# Altium schematic symbol library Resistors$.SchLib: 673 symbols (part 3 of 5)
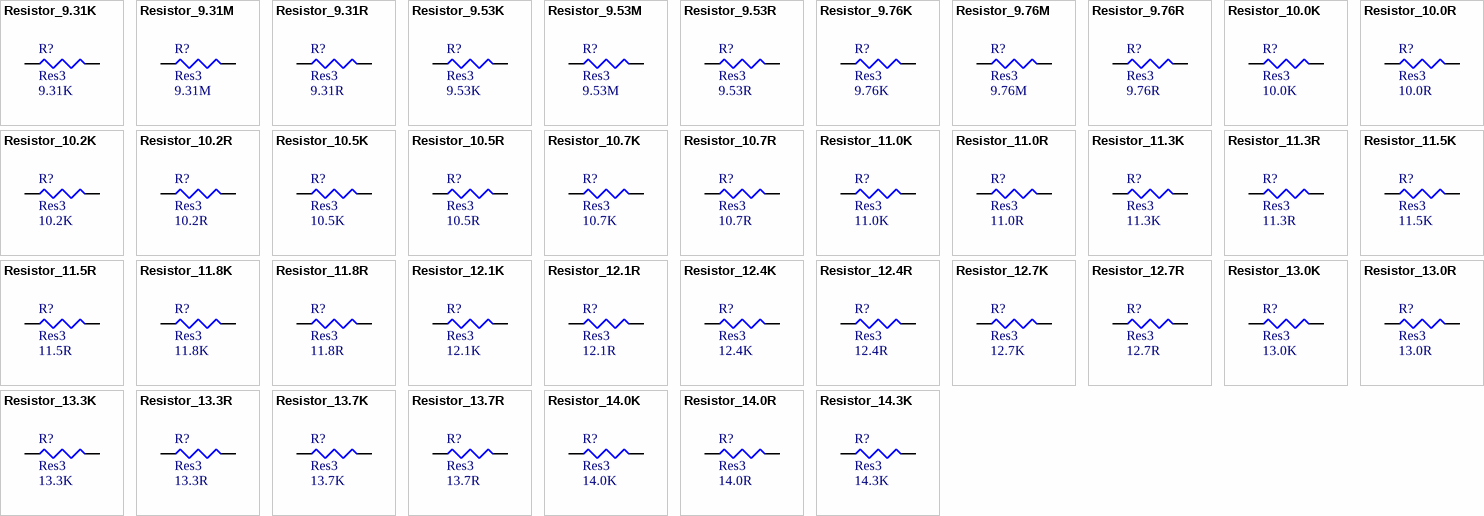
[diagram p18: symbols Resistor_9.31K to Resistor_14.3K]

## Resistor_11.3R
designator R?, comment Res3  value 11.3R
RES SMD 11.3R OHM 1% 1/8W 0805; MPN: CRCW080511R3FKEA; Name: Resistor_11.3R; PN: 541-11.3CCT-ND; URL: http://www.digikey.ca/product-detail/en/CRCW080511R3FKEA/541-11.3CCT-ND
footprint RESC2112X05M (Chip Resistor, 2-Leads, Body 2.05x1.25mm, IPC Low Density)
pins: 1, 2

## Resistor_11.5K
designator R?, comment Res3  value 11.5K
RES SMD 11.5K OHM 1% 1/8W 0805; MPN: CRCW080511K5FKEA; Name: Resistor_11.5K; PN: 541-11.5KCCT-ND; URL: http://www.digikey.ca/product-detail/en/CRCW080511K5FKEA/541-11.5KCCT-ND
footprint RESC2112X05M (Chip Resistor, 2-Leads, Body 2.05x1.25mm, IPC Low Density)
pins: 1, 2

## Resistor_11.5R
designator R?, comment Res3  value 11.5R
RES SMD 11.5R OHM 1% 1/8W 0805; MPN: CRCW080511R5FKEA; Name: Resistor_11.5R; PN: 541-11.5CCT-ND; URL: http://www.digikey.ca/product-detail/en/CRCW080511R5FKEA/541-11.5CCT-ND
footprint RESC2112X05M (Chip Resistor, 2-Leads, Body 2.05x1.25mm, IPC Low Density)
pins: 1, 2

## Resistor_11.8K
designator R?, comment Res3  value 11.8K
RES SMD 11.8K OHM 1% 1/8W 0805; MPN: CRCW080511K8FKEA; Name: Resistor_11.8K; PN: 541-11.8KCCT-ND; URL: http://www.digikey.ca/product-detail/en/CRCW080511K8FKEA/541-11.8KCCT-ND
footprint RESC2112X05M (Chip Resistor, 2-Leads, Body 2.05x1.25mm, IPC Low Density)
pins: 1, 2

## Resistor_11.8R
designator R?, comment Res3  value 11.8R
RES SMD 11.8R OHM 1% 1/8W 0805; MPN: CRCW080511R8FKEA; Name: Resistor_11.8R; PN: 541-11.8CCT-ND; URL: http://www.digikey.ca/product-detail/en/CRCW080511R8FKEA/541-11.8CCT-ND
footprint RESC2112X05M (Chip Resistor, 2-Leads, Body 2.05x1.25mm, IPC Low Density)
pins: 1, 2

## Resistor_12.1K
designator R?, comment Res3  value 12.1K
RES SMD 12.1K OHM 1% 1/8W 0805; MPN: CRCW080512K1FKEA; Name: Resistor_12.1K; PN: 541-12.1KCCT-ND; URL: http://www.digikey.ca/product-detail/en/CRCW080512K1FKEA/541-12.1KCCT-ND
footprint RESC2112X05M (Chip Resistor, 2-Leads, Body 2.05x1.25mm, IPC Low Density)
pins: 1, 2

## Resistor_12.1R
designator R?, comment Res3  value 12.1R
RES SMD 12.1R OHM 1% 1/8W 0805; MPN: CRCW080512R1FKEA; Name: Resistor_12.1R; PN: 541-12.1CCT-ND; URL: http://www.digikey.ca/product-detail/en/CRCW080512R1FKEA/541-12.1CCT-ND
footprint RESC2112X05M (Chip Resistor, 2-Leads, Body 2.05x1.25mm, IPC Low Density)
pins: 1, 2

## Resistor_12.4K
designator R?, comment Res3  value 12.4K
RES SMD 12.4K OHM 1% 1/8W 0805; MPN: CRCW080512K4FKEA; Name: Resistor_12.4K; PN: 541-12.4KCCT-ND; URL: http://www.digikey.ca/product-detail/en/CRCW080512K4FKEA/541-12.4KCCT-ND
footprint RESC2112X05M (Chip Resistor, 2-Leads, Body 2.05x1.25mm, IPC Low Density)
pins: 1, 2

## Resistor_12.4R
designator R?, comment Res3  value 12.4R
RES SMD 12.4R OHM 1% 1/8W 0805; MPN: CRCW080512R4FKEA; Name: Resistor_12.4R; PN: 541-12.4CCT-ND; URL: http://www.digikey.ca/product-detail/en/CRCW080512R4FKEA/541-12.4CCT-ND
footprint RESC2112X05M (Chip Resistor, 2-Leads, Body 2.05x1.25mm, IPC Low Density)
pins: 1, 2

## Resistor_12.7K
designator R?, comment Res3  value 12.7K
RES SMD 12.7K OHM 1% 1/8W 0805; MPN: CRCW080512K7FKEA; Name: Resistor_12.7K; PN: 541-12.7KCCT-ND; URL: http://www.digikey.ca/product-detail/en/CRCW080512K7FKEA/541-12.7KCCT-ND
footprint RESC2112X05M (Chip Resistor, 2-Leads, Body 2.05x1.25mm, IPC Low Density)
pins: 1, 2

## Resistor_12.7R
designator R?, comment Res3  value 12.7R
RES SMD 12.7R OHM 1% 1/8W 0805; MPN: CRCW080512R7FKEA; Name: Resistor_12.7R; PN: 541-12.7CCT-ND; URL: http://www.digikey.ca/product-detail/en/CRCW080512R7FKEA/541-12.7CCT-ND
footprint RESC2112X05M (Chip Resistor, 2-Leads, Body 2.05x1.25mm, IPC Low Density)
pins: 1, 2

## Resistor_13.0K
designator R?, comment Res3  value 13.0K
RES SMD 13.0K OHM 1% 1/8W 0805; MPN: CRCW080513K0FKEA; Name: Resistor_13.0K; PN: 541-13.0KCCT-ND; URL: http://www.digikey.ca/product-detail/en/CRCW080513K0FKEA/541-13.0KCCT-ND
footprint RESC2112X05M (Chip Resistor, 2-Leads, Body 2.05x1.25mm, IPC Low Density)
pins: 1, 2

## Resistor_13.0R
designator R?, comment Res3  value 13.0R
RES SMD 13.0R OHM 1% 1/8W 0805; MPN: CRCW080513R0FKEA; Name: Resistor_13.0R; PN: 541-13.0CCT-ND; URL: http://www.digikey.ca/product-detail/en/CRCW080513R0FKEA/541-13.0CCT-ND
footprint RESC2112X05M (Chip Resistor, 2-Leads, Body 2.05x1.25mm, IPC Low Density)
pins: 1, 2

## Resistor_13.3K
designator R?, comment Res3  value 13.3K
RES SMD 13.3K OHM 1% 1/8W 0805; MPN: CRCW080513K3FKEA; Name: Resistor_13.3K; PN: 541-13.3KCCT-ND; URL: http://www.digikey.ca/product-detail/en/CRCW080513K3FKEA/541-13.3KCCT-ND
footprint RESC2112X05M (Chip Resistor, 2-Leads, Body 2.05x1.25mm, IPC Low Density)
pins: 1, 2

## Resistor_13.3R
designator R?, comment Res3  value 13.3R
RES SMD 13.3R OHM 1% 1/8W 0805; MPN: CRCW080513R3FKEA; Name: Resistor_13.3R; PN: 541-13.3CCT-ND; URL: http://www.digikey.ca/product-detail/en/CRCW080513R3FKEA/541-13.3CCT-ND
footprint RESC2112X05M (Chip Resistor, 2-Leads, Body 2.05x1.25mm, IPC Low Density)
pins: 1, 2

## Resistor_13.7K
designator R?, comment Res3  value 13.7K
RES SMD 13.7K OHM 1% 1/8W 0805; MPN: CRCW080513K7FKEA; Name: Resistor_13.7K; PN: 541-13.7KCCT-ND; URL: http://www.digikey.ca/product-detail/en/CRCW080513K7FKEA/541-13.7KCCT-ND
footprint RESC2112X05M (Chip Resistor, 2-Leads, Body 2.05x1.25mm, IPC Low Density)
pins: 1, 2

## Resistor_13.7R
designator R?, comment Res3  value 13.7R
RES SMD 13.7R OHM 1% 1/8W 0805; MPN: CRCW080513R7FKEA; Name: Resistor_13.7R; PN: 541-13.7CCT-ND; URL: http://www.digikey.ca/product-detail/en/CRCW080513R7FKEA/541-13.7CCT-ND
footprint RESC2112X05M (Chip Resistor, 2-Leads, Body 2.05x1.25mm, IPC Low Density)
pins: 1, 2

## Resistor_14.0K
designator R?, comment Res3  value 14.0K
RES SMD 14.0K OHM 1% 1/8W 0805; MPN: CRCW080514K0FKEA; Name: Resistor_14.0K; PN: 541-14.0KCCT-ND; URL: http://www.digikey.ca/product-detail/en/CRCW080514K0FKEA/541-14.0KCCT-ND
footprint RESC2112X05M (Chip Resistor, 2-Leads, Body 2.05x1.25mm, IPC Low Density)
pins: 1, 2

## Resistor_14.0R
designator R?, comment Res3  value 14.0R
RES SMD 14.0R OHM 1% 1/8W 0805; MPN: CRCW080514R0FKEA; Name: Resistor_14.0R; PN: 541-14.0CCT-ND; URL: http://www.digikey.ca/product-detail/en/CRCW080514R0FKEA/541-14.0CCT-ND
footprint RESC2112X05M (Chip Resistor, 2-Leads, Body 2.05x1.25mm, IPC Low Density)
pins: 1, 2

## Resistor_14.3K
designator R?, comment Res3  value 14.3K
RES SMD 14.3K OHM 1% 1/8W 0805; MPN: CRCW080514K3FKEA; Name: Resistor_14.3K; PN: 541-14.3KCCT-ND; URL: http://www.digikey.ca/product-detail/en/CRCW080514K3FKEA/541-14.3KCCT-ND
footprint RESC2112X05M (Chip Resistor, 2-Leads, Body 2.05x1.25mm, IPC Low Density)
pins: 1, 2

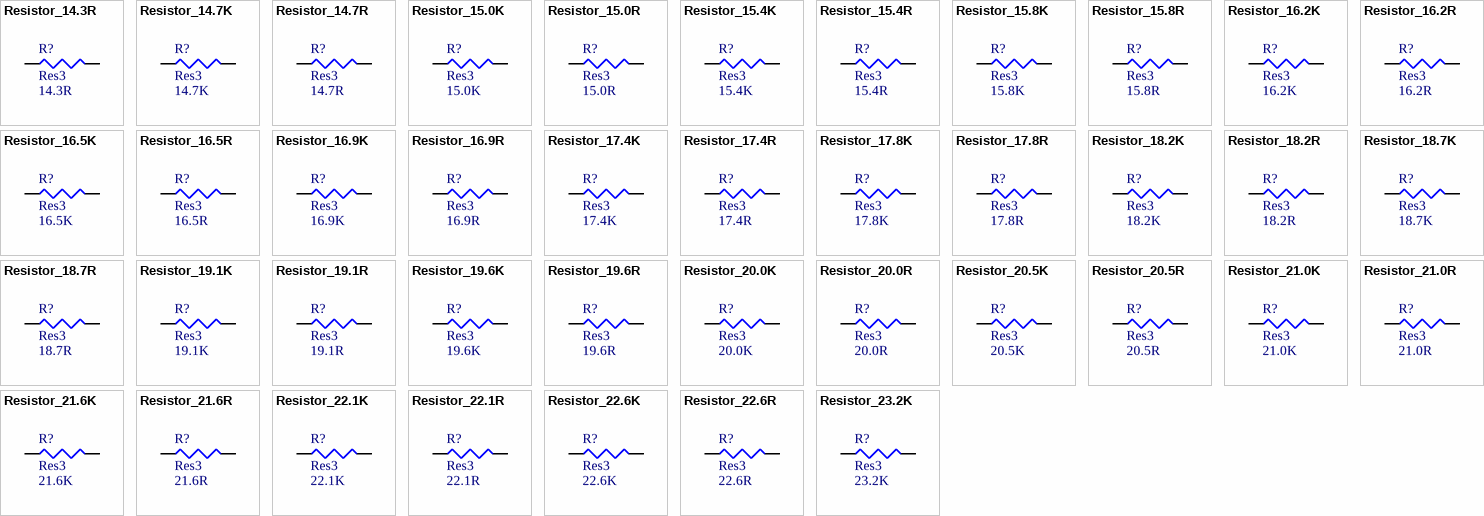
[diagram p8: symbols Resistor_14.3R to Resistor_23.2K]

## Resistor_14.3R
designator R?, comment Res3  value 14.3R
RES SMD 14.3R OHM 1% 1/8W 0805; MPN: CRCW080514R3FKEA; Name: Resistor_14.3R; PN: 541-14.3CCT-ND; URL: http://www.digikey.ca/product-detail/en/CRCW080514R3FKEA/541-14.3CCT-ND
footprint RESC2112X05M (Chip Resistor, 2-Leads, Body 2.05x1.25mm, IPC Low Density)
pins: 1, 2

## Resistor_14.7K
designator R?, comment Res3  value 14.7K
RES SMD 14.7K OHM 1% 1/8W 0805; MPN: CRCW080514K7FKEA; Name: Resistor_14.7K; PN: 541-14.7KCCT-ND; URL: http://www.digikey.ca/product-detail/en/CRCW080514K7FKEA/541-14.7KCCT-ND
footprint RESC2112X05M (Chip Resistor, 2-Leads, Body 2.05x1.25mm, IPC Low Density)
pins: 1, 2

## Resistor_14.7R
designator R?, comment Res3  value 14.7R
RES SMD 14.7R OHM 1% 1/8W 0805; MPN: CRCW080514R7FKEA; Name: Resistor_14.7R; PN: 541-14.7CCT-ND; URL: http://www.digikey.ca/product-detail/en/CRCW080514R7FKEA/541-14.7CCT-ND
footprint RESC2112X05M (Chip Resistor, 2-Leads, Body 2.05x1.25mm, IPC Low Density)
pins: 1, 2

## Resistor_15.0K
designator R?, comment Res3  value 15.0K
RES SMD 15.0K OHM 1% 1/8W 0805; MPN: CRCW080515K0FKEA; Name: Resistor_15.0K; PN: 541-15.0KCCT-ND; URL: http://www.digikey.ca/product-detail/en/CRCW080515K0FKEA/541-15.0KCCT-ND
footprint RESC2112X05M (Chip Resistor, 2-Leads, Body 2.05x1.25mm, IPC Low Density)
pins: 1, 2

## Resistor_15.0R
designator R?, comment Res3  value 15.0R
RES SMD 15.0R OHM 1% 1/8W 0805; MPN: CRCW080515R0FKEA; Name: Resistor_15.0R; PN: 541-15.0CCT-ND; URL: http://www.digikey.ca/product-detail/en/CRCW080515R0FKEA/541-15.0CCT-ND
footprint RESC2112X05M (Chip Resistor, 2-Leads, Body 2.05x1.25mm, IPC Low Density)
pins: 1, 2

## Resistor_15.4K
designator R?, comment Res3  value 15.4K
RES SMD 15.4K OHM 1% 1/8W 0805; MPN: CRCW080515K4FKEA; Name: Resistor_15.4K; PN: 541-15.4KCCT-ND; URL: http://www.digikey.ca/product-detail/en/CRCW080515K4FKEA/541-15.4KCCT-ND
footprint RESC2112X05M (Chip Resistor, 2-Leads, Body 2.05x1.25mm, IPC Low Density)
pins: 1, 2

## Resistor_15.4R
designator R?, comment Res3  value 15.4R
RES SMD 15.4R OHM 1% 1/8W 0805; MPN: CRCW080515R4FKEA; Name: Resistor_15.4R; PN: 541-15.4CCT-ND; URL: http://www.digikey.ca/product-detail/en/CRCW080515R4FKEA/541-15.4CCT-ND
footprint RESC2112X05M (Chip Resistor, 2-Leads, Body 2.05x1.25mm, IPC Low Density)
pins: 1, 2

## Resistor_15.8K
designator R?, comment Res3  value 15.8K
RES SMD 15.8K OHM 1% 1/8W 0805; MPN: CRCW080515K8FKEA; Name: Resistor_15.8K; PN: 541-15.8KCCT-ND; URL: http://www.digikey.ca/product-detail/en/CRCW080515K8FKEA/541-15.8KCCT-ND
footprint RESC2112X05M (Chip Resistor, 2-Leads, Body 2.05x1.25mm, IPC Low Density)
pins: 1, 2

## Resistor_15.8R
designator R?, comment Res3  value 15.8R
RES SMD 15.8R OHM 1% 1/8W 0805; MPN: CRCW080515R8FKEA; Name: Resistor_15.8R; PN: 541-15.8CCT-ND; URL: http://www.digikey.ca/product-detail/en/CRCW080515R8FKEA/541-15.8CCT-ND
footprint RESC2112X05M (Chip Resistor, 2-Leads, Body 2.05x1.25mm, IPC Low Density)
pins: 1, 2

## Resistor_16.2K
designator R?, comment Res3  value 16.2K
RES SMD 16.2K OHM 1% 1/8W 0805; MPN: CRCW080516K2FKEA; Name: Resistor_16.2K; PN: 541-16.2KCCT-ND; URL: http://www.digikey.ca/product-detail/en/CRCW080516K2FKEA/541-16.2KCCT-ND
footprint RESC2112X05M (Chip Resistor, 2-Leads, Body 2.05x1.25mm, IPC Low Density)
pins: 1, 2

## Resistor_16.2R
designator R?, comment Res3  value 16.2R
RES SMD 16.2R OHM 1% 1/8W 0805; MPN: CRCW080516R2FKEA; Name: Resistor_16.2R; PN: 541-16.2CCT-ND; URL: http://www.digikey.ca/product-detail/en/CRCW080516R2FKEA/541-16.2CCT-ND
footprint RESC2112X05M (Chip Resistor, 2-Leads, Body 2.05x1.25mm, IPC Low Density)
pins: 1, 2

## Resistor_16.5K
designator R?, comment Res3  value 16.5K
RES SMD 16.5K OHM 1% 1/8W 0805; MPN: CRCW080516K5FKEA; Name: Resistor_16.5K; PN: 541-16.5KCCT-ND; URL: http://www.digikey.ca/product-detail/en/CRCW080516K5FKEA/541-16.5KCCT-ND
footprint RESC2112X05M (Chip Resistor, 2-Leads, Body 2.05x1.25mm, IPC Low Density)
pins: 1, 2

## Resistor_16.5R
designator R?, comment Res3  value 16.5R
RES SMD 16.5R OHM 1% 1/8W 0805; MPN: CRCW080516R5FKEA; Name: Resistor_16.5R; PN: 541-16.5CCT-ND; URL: http://www.digikey.ca/product-detail/en/CRCW080516R5FKEA/541-16.5CCT-ND
footprint RESC2112X05M (Chip Resistor, 2-Leads, Body 2.05x1.25mm, IPC Low Density)
pins: 1, 2

## Resistor_16.9K
designator R?, comment Res3  value 16.9K
RES SMD 16.9K OHM 1% 1/8W 0805; MPN: CRCW080516K9FKEA; Name: Resistor_16.9K; PN: 541-16.9KCCT-ND; URL: http://www.digikey.ca/product-detail/en/CRCW080516K9FKEA/541-16.9KCCT-ND
footprint RESC2112X05M (Chip Resistor, 2-Leads, Body 2.05x1.25mm, IPC Low Density)
pins: 1, 2

## Resistor_16.9R
designator R?, comment Res3  value 16.9R
RES SMD 16.9R OHM 1% 1/8W 0805; MPN: CRCW080516R9FKEA; Name: Resistor_16.9R; PN: 541-16.9CCT-ND; URL: http://www.digikey.ca/product-detail/en/CRCW080516R9FKEA/541-16.9CCT-ND
footprint RESC2112X05M (Chip Resistor, 2-Leads, Body 2.05x1.25mm, IPC Low Density)
pins: 1, 2

## Resistor_17.4K
designator R?, comment Res3  value 17.4K
RES SMD 17.4K OHM 1% 1/8W 0805; MPN: CRCW080517K4FKEA; Name: Resistor_17.4K; PN: 541-17.4KCCT-ND; URL: http://www.digikey.ca/product-detail/en/CRCW080517K4FKEA/541-17.4KCCT-ND
footprint RESC2112X05M (Chip Resistor, 2-Leads, Body 2.05x1.25mm, IPC Low Density)
pins: 1, 2

## Resistor_17.4R
designator R?, comment Res3  value 17.4R
RES SMD 17.4R OHM 1% 1/8W 0805; MPN: CRCW080517R4FKEA; Name: Resistor_17.4R; PN: 541-17.4CCT-ND; URL: http://www.digikey.ca/product-detail/en/CRCW080517R4FKEA/541-17.4CCT-ND
footprint RESC2112X05M (Chip Resistor, 2-Leads, Body 2.05x1.25mm, IPC Low Density)
pins: 1, 2

## Resistor_17.8K
designator R?, comment Res3  value 17.8K
RES SMD 17.8K OHM 1% 1/8W 0805; MPN: CRCW080517K8FKEA; Name: Resistor_17.8K; PN: 541-17.8KCCT-ND; URL: http://www.digikey.ca/product-detail/en/CRCW080517K8FKEA/541-17.8KCCT-ND
footprint RESC2112X05M (Chip Resistor, 2-Leads, Body 2.05x1.25mm, IPC Low Density)
pins: 1, 2

## Resistor_17.8R
designator R?, comment Res3  value 17.8R
RES SMD 17.8R OHM 1% 1/8W 0805; MPN: CRCW080517R8FKEA; Name: Resistor_17.8R; PN: 541-17.8CCT-ND; URL: http://www.digikey.ca/product-detail/en/CRCW080517R8FKEA/541-17.8CCT-ND
footprint RESC2112X05M (Chip Resistor, 2-Leads, Body 2.05x1.25mm, IPC Low Density)
pins: 1, 2

## Resistor_18.2K
designator R?, comment Res3  value 18.2K
RES SMD 18.2K OHM 1% 1/8W 0805; MPN: CRCW080518K2FKEA; Name: Resistor_18.2K; PN: 541-18.2KCCT-ND; URL: http://www.digikey.ca/product-detail/en/CRCW080518K2FKEA/541-18.2KCCT-ND
footprint RESC2112X05M (Chip Resistor, 2-Leads, Body 2.05x1.25mm, IPC Low Density)
pins: 1, 2

## Resistor_18.2R
designator R?, comment Res3  value 18.2R
RES SMD 18.2R OHM 1% 1/8W 0805; MPN: CRCW080518R2FKEA; Name: Resistor_18.2R; PN: 541-18.2CCT-ND; URL: http://www.digikey.ca/product-detail/en/CRCW080518R2FKEA/541-18.2CCT-ND
footprint RESC2112X05M (Chip Resistor, 2-Leads, Body 2.05x1.25mm, IPC Low Density)
pins: 1, 2

## Resistor_18.7K
designator R?, comment Res3  value 18.7K
RES SMD 18.7K OHM 1% 1/8W 0805; MPN: CRCW080518K7FKEA; Name: Resistor_18.7K; PN: 541-18.7KCCT-ND; URL: http://www.digikey.ca/product-detail/en/CRCW080518K7FKEA/541-18.7KCCT-ND
footprint RESC2112X05M (Chip Resistor, 2-Leads, Body 2.05x1.25mm, IPC Low Density)
pins: 1, 2

## Resistor_18.7R
designator R?, comment Res3  value 18.7R
RES SMD 18.7R OHM 1% 1/8W 0805; MPN: CRCW080518R7FKEA; Name: Resistor_18.7R; PN: 541-18.7CCT-ND; URL: http://www.digikey.ca/product-detail/en/CRCW080518R7FKEA/541-18.7CCT-ND
footprint RESC2112X05M (Chip Resistor, 2-Leads, Body 2.05x1.25mm, IPC Low Density)
pins: 1, 2

## Resistor_19.1K
designator R?, comment Res3  value 19.1K
RES SMD 19.1K OHM 1% 1/8W 0805; MPN: CRCW080519K1FKEA; Name: Resistor_19.1K; PN: 541-19.1KCCT-ND; URL: http://www.digikey.ca/product-detail/en/CRCW080519K1FKEA/541-19.1KCCT-ND
footprint RESC2112X05M (Chip Resistor, 2-Leads, Body 2.05x1.25mm, IPC Low Density)
pins: 1, 2

## Resistor_19.1R
designator R?, comment Res3  value 19.1R
RES SMD 19.1R OHM 1% 1/8W 0805; MPN: CRCW080519R1FKEA; Name: Resistor_19.1R; PN: 541-19.1CCT-ND; URL: http://www.digikey.ca/product-detail/en/CRCW080519R1FKEA/541-19.1CCT-ND
footprint RESC2112X05M (Chip Resistor, 2-Leads, Body 2.05x1.25mm, IPC Low Density)
pins: 1, 2

## Resistor_19.6K
designator R?, comment Res3  value 19.6K
RES SMD 19.6K OHM 1% 1/8W 0805; MPN: CRCW080519K6FKEA; Name: Resistor_19.6K; PN: 541-19.6KCCT-ND; URL: http://www.digikey.ca/product-detail/en/CRCW080519K6FKEA/541-19.6KCCT-ND
footprint RESC2112X05M (Chip Resistor, 2-Leads, Body 2.05x1.25mm, IPC Low Density)
pins: 1, 2

## Resistor_19.6R
designator R?, comment Res3  value 19.6R
RES SMD 19.6R OHM 1% 1/8W 0805; MPN: CRCW080519R6FKEA; Name: Resistor_19.6R; PN: 541-19.6CCT-ND; URL: http://www.digikey.ca/product-detail/en/CRCW080519R6FKEA/541-19.6CCT-ND
footprint RESC2112X05M (Chip Resistor, 2-Leads, Body 2.05x1.25mm, IPC Low Density)
pins: 1, 2

## Resistor_20.0K
designator R?, comment Res3  value 20.0K
RES SMD 20.0K OHM 1% 1/8W 0805; MPN: CRCW080520K0FKEA; Name: Resistor_20.0K; PN: 541-20.0KCCT-ND; URL: http://www.digikey.ca/product-detail/en/CRCW080520K0FKEA/541-20.0KCCT-ND
footprint RESC2112X05M (Chip Resistor, 2-Leads, Body 2.05x1.25mm, IPC Low Density)
pins: 1, 2

## Resistor_20.0R
designator R?, comment Res3  value 20.0R
RES SMD 20.0R OHM 1% 1/8W 0805; MPN: CRCW080520R0FKEA; Name: Resistor_20.0R; PN: 541-20.0CCT-ND; URL: http://www.digikey.ca/product-detail/en/CRCW080520R0FKEA/541-20.0CCT-ND
footprint RESC2112X05M (Chip Resistor, 2-Leads, Body 2.05x1.25mm, IPC Low Density)
pins: 1, 2

## Resistor_20.5K
designator R?, comment Res3  value 20.5K
RES SMD 20.5K OHM 1% 1/8W 0805; MPN: CRCW080520K5FKEA; Name: Resistor_20.5K; PN: 541-20.5KCCT-ND; URL: http://www.digikey.ca/product-detail/en/CRCW080520K5FKEA/541-20.5KCCT-ND
footprint RESC2112X05M (Chip Resistor, 2-Leads, Body 2.05x1.25mm, IPC Low Density)
pins: 1, 2

## Resistor_20.5R
designator R?, comment Res3  value 20.5R
RES SMD 20.5R OHM 1% 1/8W 0805; MPN: CRCW080520R5FKEA; Name: Resistor_20.5R; PN: 541-20.5CCT-ND; URL: http://www.digikey.ca/product-detail/en/CRCW080520R5FKEA/541-20.5CCT-ND
footprint RESC2112X05M (Chip Resistor, 2-Leads, Body 2.05x1.25mm, IPC Low Density)
pins: 1, 2

## Resistor_21.0K
designator R?, comment Res3  value 21.0K
RES SMD 21.0K OHM 1% 1/8W 0805; MPN: CRCW080521K0FKEA; Name: Resistor_21.0K; PN: 541-21.0KCCT-ND; URL: http://www.digikey.ca/product-detail/en/CRCW080521K0FKEA/541-21.0KCCT-ND
footprint RESC2112X05M (Chip Resistor, 2-Leads, Body 2.05x1.25mm, IPC Low Density)
pins: 1, 2

## Resistor_21.0R
designator R?, comment Res3  value 21.0R
RES SMD 21.0R OHM 1% 1/8W 0805; MPN: CRCW080521R0FKEA; Name: Resistor_21.0R; PN: 541-21.0CCT-ND; URL: http://www.digikey.ca/product-detail/en/CRCW080521R0FKEA/541-21.0CCT-ND
footprint RESC2112X05M (Chip Resistor, 2-Leads, Body 2.05x1.25mm, IPC Low Density)
pins: 1, 2

## Resistor_21.6K
designator R?, comment Res3  value 21.6K
RES SMD 21.6K OHM 1% 1/8W 0805; MPN: CRCW080521K6FKEA; Name: Resistor_21.6K; PN: 541-21.6KCCT-ND; URL: http://www.digikey.ca/product-detail/en/CRCW080521K6FKEA/541-21.6KCCT-ND
footprint RESC2112X05M (Chip Resistor, 2-Leads, Body 2.05x1.25mm, IPC Low Density)
pins: 1, 2

## Resistor_21.6R
designator R?, comment Res3  value 21.6R
RES SMD 21.6R OHM 1% 1/8W 0805; MPN: CRCW080521R6FKEA; Name: Resistor_21.6R; PN: 541-21.6CCT-ND; URL: http://www.digikey.ca/product-detail/en/CRCW080521R6FKEA/541-21.6CCT-ND
footprint RESC2112X05M (Chip Resistor, 2-Leads, Body 2.05x1.25mm, IPC Low Density)
pins: 1, 2

## Resistor_22.1K
designator R?, comment Res3  value 22.1K
RES SMD 22.1K OHM 1% 1/8W 0805; MPN: CRCW080522K1FKEA; Name: Resistor_22.1K; PN: 541-22.1KCCT-ND; URL: http://www.digikey.ca/product-detail/en/CRCW080522K1FKEA/541-22.1KCCT-ND
footprint RESC2112X05M (Chip Resistor, 2-Leads, Body 2.05x1.25mm, IPC Low Density)
pins: 1, 2

## Resistor_22.1R
designator R?, comment Res3  value 22.1R
RES SMD 22.1R OHM 1% 1/8W 0805; MPN: CRCW080522R1FKEA; Name: Resistor_22.1R; PN: 541-22.1CCT-ND; URL: http://www.digikey.ca/product-detail/en/CRCW080522R1FKEA/541-22.1CCT-ND
footprint RESC2112X05M (Chip Resistor, 2-Leads, Body 2.05x1.25mm, IPC Low Density)
pins: 1, 2

## Resistor_22.6K
designator R?, comment Res3  value 22.6K
RES SMD 22.6K OHM 1% 1/8W 0805; MPN: CRCW080522K6FKEA; Name: Resistor_22.6K; PN: 541-22.6KCCT-ND; URL: http://www.digikey.ca/product-detail/en/CRCW080522K6FKEA/541-22.6KCCT-ND
footprint RESC2112X05M (Chip Resistor, 2-Leads, Body 2.05x1.25mm, IPC Low Density)
pins: 1, 2

## Resistor_22.6R
designator R?, comment Res3  value 22.6R
RES SMD 22.6R OHM 1% 1/8W 0805; MPN: CRCW080522R6FKEA; Name: Resistor_22.6R; PN: 541-22.6CCT-ND; URL: http://www.digikey.ca/product-detail/en/CRCW080522R6FKEA/541-22.6CCT-ND
footprint RESC2112X05M (Chip Resistor, 2-Leads, Body 2.05x1.25mm, IPC Low Density)
pins: 1, 2

## Resistor_23.2K
designator R?, comment Res3  value 23.2K
RES SMD 23.2K OHM 1% 1/8W 0805; MPN: CRCW080523K2FKEA; Name: Resistor_23.2K; PN: 541-23.2KCCT-ND; URL: http://www.digikey.ca/product-detail/en/CRCW080523K2FKEA/541-23.2KCCT-ND
footprint RESC2112X05M (Chip Resistor, 2-Leads, Body 2.05x1.25mm, IPC Low Density)
pins: 1, 2

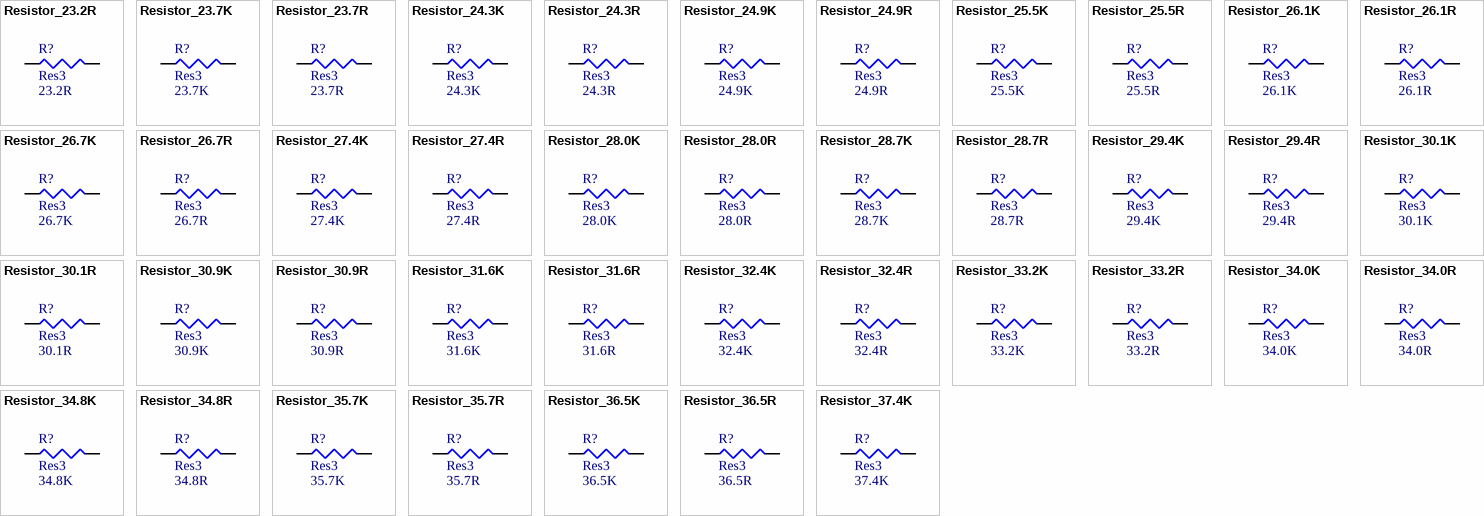
[diagram p9: symbols Resistor_23.2R to Resistor_37.4K]

## Resistor_23.2R
designator R?, comment Res3  value 23.2R
RES SMD 23.2R OHM 1% 1/8W 0805; MPN: CRCW080523R2FKEA; Name: Resistor_23.2R; PN: 541-23.2CCT-ND; URL: http://www.digikey.ca/product-detail/en/CRCW080523R2FKEA/541-23.2CCT-ND
footprint RESC2112X05M (Chip Resistor, 2-Leads, Body 2.05x1.25mm, IPC Low Density)
pins: 1, 2

## Resistor_23.7K
designator R?, comment Res3  value 23.7K
RES SMD 23.7K OHM 1% 1/8W 0805; MPN: CRCW080523K7FKEA; Name: Resistor_23.7K; PN: 541-23.7KCCT-ND; URL: http://www.digikey.ca/product-detail/en/CRCW080523K7FKEA/541-23.7KCCT-ND
footprint RESC2112X05M (Chip Resistor, 2-Leads, Body 2.05x1.25mm, IPC Low Density)
pins: 1, 2

## Resistor_23.7R
designator R?, comment Res3  value 23.7R
RES SMD 23.7R OHM 1% 1/8W 0805; MPN: CRCW080523R7FKEA; Name: Resistor_23.7R; PN: 541-23.7CCT-ND; URL: http://www.digikey.ca/product-detail/en/CRCW080523R7FKEA/541-23.7CCT-ND
footprint RESC2112X05M (Chip Resistor, 2-Leads, Body 2.05x1.25mm, IPC Low Density)
pins: 1, 2

## Resistor_24.3K
designator R?, comment Res3  value 24.3K
RES SMD 24.3K OHM 1% 1/8W 0805; MPN: CRCW080524K3FKEA; Name: Resistor_24.3K; PN: 541-24.3KCCT-ND; URL: http://www.digikey.ca/product-detail/en/CRCW080524K3FKEA/541-24.3KCCT-ND
footprint RESC2112X05M (Chip Resistor, 2-Leads, Body 2.05x1.25mm, IPC Low Density)
pins: 1, 2

## Resistor_24.3R
designator R?, comment Res3  value 24.3R
RES SMD 24.3R OHM 1% 1/8W 0805; MPN: CRCW080524R3FKEA; Name: Resistor_24.3R; PN: 541-24.3CCT-ND; URL: http://www.digikey.ca/product-detail/en/CRCW080524R3FKEA/541-24.3CCT-ND
footprint RESC2112X05M (Chip Resistor, 2-Leads, Body 2.05x1.25mm, IPC Low Density)
pins: 1, 2

## Resistor_24.9K
designator R?, comment Res3  value 24.9K
RES SMD 24.9K OHM 1% 1/8W 0805; MPN: CRCW080524K9FKEA; Name: Resistor_24.9K; PN: 541-24.9KCCT-ND; URL: http://www.digikey.ca/product-detail/en/CRCW080524K9FKEA/541-24.9KCCT-ND
footprint RESC2112X05M (Chip Resistor, 2-Leads, Body 2.05x1.25mm, IPC Low Density)
pins: 1, 2

## Resistor_24.9R
designator R?, comment Res3  value 24.9R
RES SMD 24.9R OHM 1% 1/8W 0805; MPN: CRCW080524R9FKEA; Name: Resistor_24.9R; PN: 541-24.9CCT-ND; URL: http://www.digikey.ca/product-detail/en/CRCW080524R9FKEA/541-24.9CCT-ND
footprint RESC2112X05M (Chip Resistor, 2-Leads, Body 2.05x1.25mm, IPC Low Density)
pins: 1, 2

## Resistor_25.5K
designator R?, comment Res3  value 25.5K
RES SMD 25.5K OHM 1% 1/8W 0805; MPN: CRCW080525K5FKEA; Name: Resistor_25.5K; PN: 541-25.5KCCT-ND; URL: http://www.digikey.ca/product-detail/en/CRCW080525K5FKEA/541-25.5KCCT-ND
footprint RESC2112X05M (Chip Resistor, 2-Leads, Body 2.05x1.25mm, IPC Low Density)
pins: 1, 2

## Resistor_25.5R
designator R?, comment Res3  value 25.5R
RES SMD 25.5R OHM 1% 1/8W 0805; MPN: CRCW080525R5FKEA; Name: Resistor_25.5R; PN: 541-25.5CCT-ND; URL: http://www.digikey.ca/product-detail/en/CRCW080525R5FKEA/541-25.5CCT-ND
footprint RESC2112X05M (Chip Resistor, 2-Leads, Body 2.05x1.25mm, IPC Low Density)
pins: 1, 2

## Resistor_26.1K
designator R?, comment Res3  value 26.1K
RES SMD 26.1K OHM 1% 1/8W 0805; MPN: CRCW080526K1FKEA; Name: Resistor_26.1K; PN: 541-26.1KCCT-ND; URL: http://www.digikey.ca/product-detail/en/CRCW080526K1FKEA/541-26.1KCCT-ND
footprint RESC2112X05M (Chip Resistor, 2-Leads, Body 2.05x1.25mm, IPC Low Density)
pins: 1, 2

## Resistor_26.1R
designator R?, comment Res3  value 26.1R
RES SMD 26.1R OHM 1% 1/8W 0805; MPN: CRCW080526R1FKEA; Name: Resistor_26.1R; PN: 541-26.1CCT-ND; URL: http://www.digikey.ca/product-detail/en/CRCW080526R1FKEA/541-26.1CCT-ND
footprint RESC2112X05M (Chip Resistor, 2-Leads, Body 2.05x1.25mm, IPC Low Density)
pins: 1, 2

## Resistor_26.7K
designator R?, comment Res3  value 26.7K
RES SMD 26.7K OHM 1% 1/8W 0805; MPN: CRCW080526K7FKEA; Name: Resistor_26.7K; PN: 541-26.7KCCT-ND; URL: http://www.digikey.ca/product-detail/en/CRCW080526K7FKEA/541-26.7KCCT-ND
footprint RESC2112X05M (Chip Resistor, 2-Leads, Body 2.05x1.25mm, IPC Low Density)
pins: 1, 2

## Resistor_26.7R
designator R?, comment Res3  value 26.7R
RES SMD 26.7R OHM 1% 1/8W 0805; MPN: CRCW080526R7FKEA; Name: Resistor_26.7R; PN: 541-26.7CCT-ND; URL: http://www.digikey.ca/product-detail/en/CRCW080526R7FKEA/541-26.7CCT-ND
footprint RESC2112X05M (Chip Resistor, 2-Leads, Body 2.05x1.25mm, IPC Low Density)
pins: 1, 2

## Resistor_27.4K
designator R?, comment Res3  value 27.4K
RES SMD 27.4K OHM 1% 1/8W 0805; MPN: CRCW080527K4FKEA; Name: Resistor_27.4K; PN: 541-27.4KCCT-ND; URL: http://www.digikey.ca/product-detail/en/CRCW080527K4FKEA/541-27.4KCCT-ND
footprint RESC2112X05M (Chip Resistor, 2-Leads, Body 2.05x1.25mm, IPC Low Density)
pins: 1, 2

## Resistor_27.4R
designator R?, comment Res3  value 27.4R
RES SMD 27.4R OHM 1% 1/8W 0805; MPN: CRCW080527R4FKEA; Name: Resistor_27.4R; PN: 541-27.4CCT-ND; URL: http://www.digikey.ca/product-detail/en/CRCW080527R4FKEA/541-27.4CCT-ND
footprint RESC2112X05M (Chip Resistor, 2-Leads, Body 2.05x1.25mm, IPC Low Density)
pins: 1, 2

## Resistor_28.0K
designator R?, comment Res3  value 28.0K
RES SMD 28.0K OHM 1% 1/8W 0805; MPN: CRCW080528K0FKEA; Name: Resistor_28.0K; PN: 541-28.0KCCT-ND; URL: http://www.digikey.ca/product-detail/en/CRCW080528K0FKEA/541-28.0KCCT-ND
footprint RESC2112X05M (Chip Resistor, 2-Leads, Body 2.05x1.25mm, IPC Low Density)
pins: 1, 2

## Resistor_28.0R
designator R?, comment Res3  value 28.0R
RES SMD 28.0R OHM 1% 1/8W 0805; MPN: CRCW080528R0FKEA; Name: Resistor_28.0R; PN: 541-28.0CCT-ND; URL: http://www.digikey.ca/product-detail/en/CRCW080528R0FKEA/541-28.0CCT-ND
footprint RESC2112X05M (Chip Resistor, 2-Leads, Body 2.05x1.25mm, IPC Low Density)
pins: 1, 2

## Resistor_28.7K
designator R?, comment Res3  value 28.7K
RES SMD 28.7K OHM 1% 1/8W 0805; MPN: CRCW080528K7FKEA; Name: Resistor_28.7K; PN: 541-28.7KCCT-ND; URL: http://www.digikey.ca/product-detail/en/CRCW080528K7FKEA/541-28.7KCCT-ND
footprint RESC2112X05M (Chip Resistor, 2-Leads, Body 2.05x1.25mm, IPC Low Density)
pins: 1, 2

## Resistor_28.7R
designator R?, comment Res3  value 28.7R
RES SMD 28.7R OHM 1% 1/8W 0805; MPN: CRCW080528R7FKEA; Name: Resistor_28.7R; PN: 541-28.7CCT-ND; URL: http://www.digikey.ca/product-detail/en/CRCW080528R7FKEA/541-28.7CCT-ND
footprint RESC2112X05M (Chip Resistor, 2-Leads, Body 2.05x1.25mm, IPC Low Density)
pins: 1, 2

## Resistor_29.4K
designator R?, comment Res3  value 29.4K
RES SMD 29.4K OHM 1% 1/8W 0805; MPN: CRCW080529K4FKEA; Name: Resistor_29.4K; PN: 541-29.4KCCT-ND; URL: http://www.digikey.ca/product-detail/en/CRCW080529K4FKEA/541-29.4KCCT-ND
footprint RESC2112X05M (Chip Resistor, 2-Leads, Body 2.05x1.25mm, IPC Low Density)
pins: 1, 2

## Resistor_29.4R
designator R?, comment Res3  value 29.4R
RES SMD 29.4R OHM 1% 1/8W 0805; MPN: CRCW080529R4FKEA; Name: Resistor_29.4R; PN: 541-29.4CCT-ND; URL: http://www.digikey.ca/product-detail/en/CRCW080529R4FKEA/541-29.4CCT-ND
footprint RESC2112X05M (Chip Resistor, 2-Leads, Body 2.05x1.25mm, IPC Low Density)
pins: 1, 2

## Resistor_30.1K
designator R?, comment Res3  value 30.1K
RES SMD 30.1K OHM 1% 1/8W 0805; MPN: CRCW080530K1FKEA; Name: Resistor_30.1K; PN: 541-30.1KCCT-ND; URL: http://www.digikey.ca/product-detail/en/CRCW080530K1FKEA/541-30.1KCCT-ND
footprint RESC2112X05M (Chip Resistor, 2-Leads, Body 2.05x1.25mm, IPC Low Density)
pins: 1, 2

## Resistor_30.1R
designator R?, comment Res3  value 30.1R
RES SMD 30.1R OHM 1% 1/8W 0805; MPN: CRCW080530R1FKEA; Name: Resistor_30.1R; PN: 541-30.1CCT-ND; URL: http://www.digikey.ca/product-detail/en/CRCW080530R1FKEA/541-30.1CCT-ND
footprint RESC2112X05M (Chip Resistor, 2-Leads, Body 2.05x1.25mm, IPC Low Density)
pins: 1, 2

## Resistor_30.9K
designator R?, comment Res3  value 30.9K
RES SMD 30.9K OHM 1% 1/8W 0805; MPN: CRCW080530K9FKEA; Name: Resistor_30.9K; PN: 541-30.9KCCT-ND; URL: http://www.digikey.ca/product-detail/en/CRCW080530K9FKEA/541-30.9KCCT-ND
footprint RESC2112X05M (Chip Resistor, 2-Leads, Body 2.05x1.25mm, IPC Low Density)
pins: 1, 2

## Resistor_30.9R
designator R?, comment Res3  value 30.9R
RES SMD 30.9R OHM 1% 1/8W 0805; MPN: CRCW080530R9FKEA; Name: Resistor_30.9R; PN: 541-30.9CCT-ND; URL: http://www.digikey.ca/product-detail/en/CRCW080530R9FKEA/541-30.9CCT-ND
footprint RESC2112X05M (Chip Resistor, 2-Leads, Body 2.05x1.25mm, IPC Low Density)
pins: 1, 2

## Resistor_31.6K
designator R?, comment Res3  value 31.6K
RES SMD 31.6K OHM 1% 1/8W 0805; MPN: CRCW080531K6FKEA; Name: Resistor_31.6K; PN: 541-31.6KCCT-ND; URL: http://www.digikey.ca/product-detail/en/CRCW080531K6FKEA/541-31.6KCCT-ND
footprint RESC2112X05M (Chip Resistor, 2-Leads, Body 2.05x1.25mm, IPC Low Density)
pins: 1, 2

## Resistor_31.6R
designator R?, comment Res3  value 31.6R
RES SMD 31.6R OHM 1% 1/8W 0805; MPN: CRCW080531R6FKEA; Name: Resistor_31.6R; PN: 541-31.6CCT-ND; URL: http://www.digikey.ca/product-detail/en/CRCW080531R6FKEA/541-31.6CCT-ND
footprint RESC2112X05M (Chip Resistor, 2-Leads, Body 2.05x1.25mm, IPC Low Density)
pins: 1, 2

## Resistor_32.4K
designator R?, comment Res3  value 32.4K
RES SMD 32.4K OHM 1% 1/8W 0805; MPN: CRCW080532K4FKEA; Name: Resistor_32.4K; PN: 541-32.4KCCT-ND; URL: http://www.digikey.ca/product-detail/en/CRCW080532K4FKEA/541-32.4KCCT-ND
footprint RESC2112X05M (Chip Resistor, 2-Leads, Body 2.05x1.25mm, IPC Low Density)
pins: 1, 2

## Resistor_32.4R
designator R?, comment Res3  value 32.4R
RES SMD 32.4R OHM 1% 1/8W 0805; MPN: CRCW080532R4FKEA; Name: Resistor_32.4R; PN: 541-32.4CCT-ND; URL: http://www.digikey.ca/product-detail/en/CRCW080532R4FKEA/541-32.4CCT-ND
footprint RESC2112X05M (Chip Resistor, 2-Leads, Body 2.05x1.25mm, IPC Low Density)
pins: 1, 2

## Resistor_33.2K
designator R?, comment Res3  value 33.2K
RES SMD 33.2K OHM 1% 1/8W 0805; MPN: CRCW080533K2FKEA; Name: Resistor_33.2K; PN: 541-33.2KCCT-ND; URL: http://www.digikey.ca/product-detail/en/CRCW080533K2FKEA/541-33.2KCCT-ND
footprint RESC2112X05M (Chip Resistor, 2-Leads, Body 2.05x1.25mm, IPC Low Density)
pins: 1, 2

## Resistor_33.2R
designator R?, comment Res3  value 33.2R
RES SMD 33.2R OHM 1% 1/8W 0805; MPN: CRCW080533R2FKEA; Name: Resistor_33.2R; PN: 541-33.2CCT-ND; URL: http://www.digikey.ca/product-detail/en/CRCW080533R2FKEA/541-33.2CCT-ND
footprint RESC2112X05M (Chip Resistor, 2-Leads, Body 2.05x1.25mm, IPC Low Density)
pins: 1, 2

## Resistor_34.0K
designator R?, comment Res3  value 34.0K
RES SMD 34.0K OHM 1% 1/8W 0805; MPN: CRCW080534K0FKEA; Name: Resistor_34.0K; PN: 541-34.0KCCT-ND; URL: http://www.digikey.ca/product-detail/en/CRCW080534K0FKEA/541-34.0KCCT-ND
footprint RESC2112X05M (Chip Resistor, 2-Leads, Body 2.05x1.25mm, IPC Low Density)
pins: 1, 2

## Resistor_34.0R
designator R?, comment Res3  value 34.0R
RES SMD 34.0R OHM 1% 1/8W 0805; MPN: CRCW080534R0FKEA; Name: Resistor_34.0R; PN: 541-34.0CCT-ND; URL: http://www.digikey.ca/product-detail/en/CRCW080534R0FKEA/541-34.0CCT-ND
footprint RESC2112X05M (Chip Resistor, 2-Leads, Body 2.05x1.25mm, IPC Low Density)
pins: 1, 2

## Resistor_34.8K
designator R?, comment Res3  value 34.8K
RES SMD 34.8K OHM 1% 1/8W 0805; MPN: CRCW080534K8FKEA; Name: Resistor_34.8K; PN: 541-34.8KCCT-ND; URL: http://www.digikey.ca/product-detail/en/CRCW080534K8FKEA/541-34.8KCCT-ND
footprint RESC2112X05M (Chip Resistor, 2-Leads, Body 2.05x1.25mm, IPC Low Density)
pins: 1, 2

## Resistor_34.8R
designator R?, comment Res3  value 34.8R
RES SMD 34.8R OHM 1% 1/8W 0805; MPN: CRCW080534R8FKEA; Name: Resistor_34.8R; PN: 541-34.8CCT-ND; URL: http://www.digikey.ca/product-detail/en/CRCW080534R8FKEA/541-34.8CCT-ND
footprint RESC2112X05M (Chip Resistor, 2-Leads, Body 2.05x1.25mm, IPC Low Density)
pins: 1, 2

## Resistor_35.7K
designator R?, comment Res3  value 35.7K
RES SMD 35.7K OHM 1% 1/8W 0805; MPN: CRCW080535K7FKEA; Name: Resistor_35.7K; PN: 541-35.7KCCT-ND; URL: http://www.digikey.ca/product-detail/en/CRCW080535K7FKEA/541-35.7KCCT-ND
footprint RESC2112X05M (Chip Resistor, 2-Leads, Body 2.05x1.25mm, IPC Low Density)
pins: 1, 2

## Resistor_35.7R
designator R?, comment Res3  value 35.7R
RES SMD 35.7R OHM 1% 1/8W 0805; MPN: CRCW080535R7FKEA; Name: Resistor_35.7R; PN: 541-35.7CCT-ND; URL: http://www.digikey.ca/product-detail/en/CRCW080535R7FKEA/541-35.7CCT-ND
footprint RESC2112X05M (Chip Resistor, 2-Leads, Body 2.05x1.25mm, IPC Low Density)
pins: 1, 2

## Resistor_36.5K
designator R?, comment Res3  value 36.5K
RES SMD 36.5K OHM 1% 1/8W 0805; MPN: CRCW080536K5FKEA; Name: Resistor_36.5K; PN: 541-36.5KCCT-ND; URL: http://www.digikey.ca/product-detail/en/CRCW080536K5FKEA/541-36.5KCCT-ND
footprint RESC2112X05M (Chip Resistor, 2-Leads, Body 2.05x1.25mm, IPC Low Density)
pins: 1, 2

## Resistor_36.5R
designator R?, comment Res3  value 36.5R
RES SMD 36.5R OHM 1% 1/8W 0805; MPN: CRCW080536R5FKEA; Name: Resistor_36.5R; PN: 541-36.5CCT-ND; URL: http://www.digikey.ca/product-detail/en/CRCW080536R5FKEA/541-36.5CCT-ND
footprint RESC2112X05M (Chip Resistor, 2-Leads, Body 2.05x1.25mm, IPC Low Density)
pins: 1, 2

## Resistor_37.4K
designator R?, comment Res3  value 37.4K
RES SMD 37.4K OHM 1% 1/8W 0805; MPN: CRCW080537K4FKEA; Name: Resistor_37.4K; PN: 541-37.4KCCT-ND; URL: http://www.digikey.ca/product-detail/en/CRCW080537K4FKEA/541-37.4KCCT-ND
footprint RESC2112X05M (Chip Resistor, 2-Leads, Body 2.05x1.25mm, IPC Low Density)
pins: 1, 2

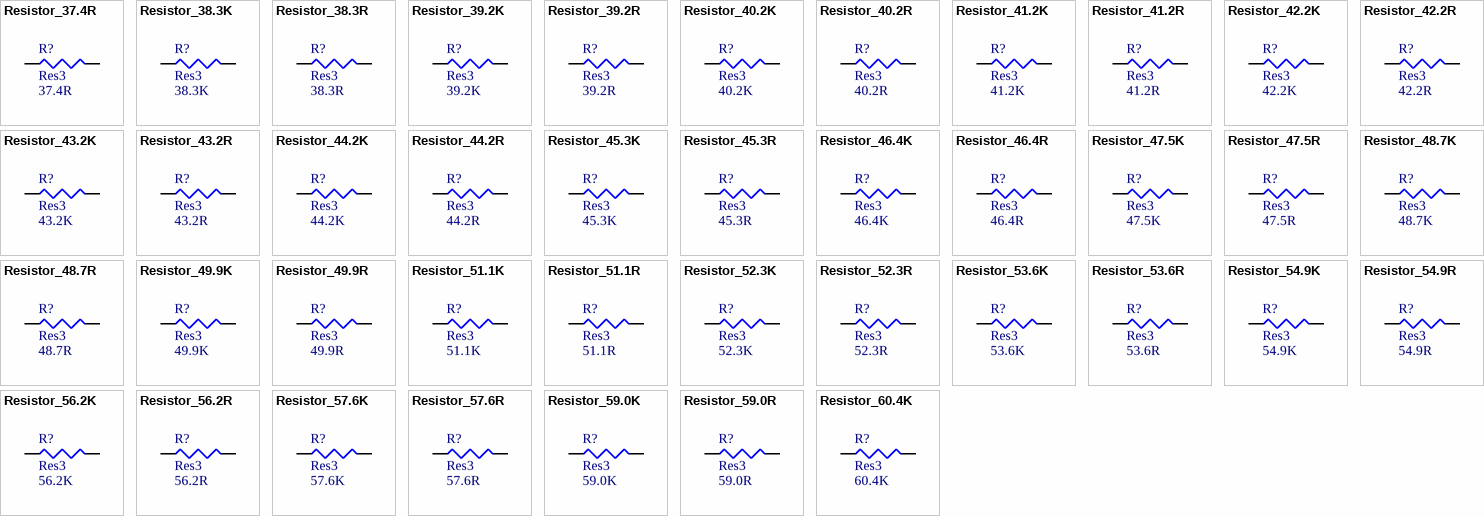
[diagram p10: symbols Resistor_37.4R to Resistor_60.4K]

## Resistor_37.4R
designator R?, comment Res3  value 37.4R
RES SMD 37.4R OHM 1% 1/8W 0805; MPN: CRCW080537R4FKEA; Name: Resistor_37.4R; PN: 541-37.4CCT-ND; URL: http://www.digikey.ca/product-detail/en/CRCW080537R4FKEA/541-37.4CCT-ND
footprint RESC2112X05M (Chip Resistor, 2-Leads, Body 2.05x1.25mm, IPC Low Density)
pins: 1, 2

## Resistor_38.3K
designator R?, comment Res3  value 38.3K
RES SMD 38.3K OHM 1% 1/8W 0805; MPN: CRCW080538K3FKEA; Name: Resistor_38.3K; PN: 541-38.3KCCT-ND; URL: http://www.digikey.ca/product-detail/en/CRCW080538K3FKEA/541-38.3KCCT-ND
footprint RESC2112X05M (Chip Resistor, 2-Leads, Body 2.05x1.25mm, IPC Low Density)
pins: 1, 2

## Resistor_38.3R
designator R?, comment Res3  value 38.3R
RES SMD 38.3R OHM 1% 1/8W 0805; MPN: CRCW080538R3FKEA; Name: Resistor_38.3R; PN: 541-38.3CCT-ND; URL: http://www.digikey.ca/product-detail/en/CRCW080538R3FKEA/541-38.3CCT-ND
footprint RESC2112X05M (Chip Resistor, 2-Leads, Body 2.05x1.25mm, IPC Low Density)
pins: 1, 2

## Resistor_39.2K
designator R?, comment Res3  value 39.2K
RES SMD 39.2K OHM 1% 1/8W 0805; MPN: CRCW080539K2FKEA; Name: Resistor_39.2K; PN: 541-39.2KCCT-ND; URL: http://www.digikey.ca/product-detail/en/CRCW080539K2FKEA/541-39.2KCCT-ND
footprint RESC2112X05M (Chip Resistor, 2-Leads, Body 2.05x1.25mm, IPC Low Density)
pins: 1, 2

## Resistor_39.2R
designator R?, comment Res3  value 39.2R
RES SMD 39.2R OHM 1% 1/8W 0805; MPN: CRCW080539R2FKEA; Name: Resistor_39.2R; PN: 541-39.2CCT-ND; URL: http://www.digikey.ca/product-detail/en/CRCW080539R2FKEA/541-39.2CCT-ND
footprint RESC2112X05M (Chip Resistor, 2-Leads, Body 2.05x1.25mm, IPC Low Density)
pins: 1, 2

## Resistor_40.2K
designator R?, comment Res3  value 40.2K
RES SMD 40.2K OHM 1% 1/8W 0805; MPN: CRCW080540K2FKEA; Name: Resistor_40.2K; PN: 541-40.2KCCT-ND; URL: http://www.digikey.ca/product-detail/en/CRCW080540K2FKEA/541-40.2KCCT-ND
footprint RESC2112X05M (Chip Resistor, 2-Leads, Body 2.05x1.25mm, IPC Low Density)
pins: 1, 2

## Resistor_40.2R
designator R?, comment Res3  value 40.2R
RES SMD 40.2R OHM 1% 1/8W 0805; MPN: CRCW080540R2FKEA; Name: Resistor_40.2R; PN: 541-40.2CCT-ND; URL: http://www.digikey.ca/product-detail/en/CRCW080540R2FKEA/541-40.2CCT-ND
footprint RESC2112X05M (Chip Resistor, 2-Leads, Body 2.05x1.25mm, IPC Low Density)
pins: 1, 2

## Resistor_41.2K
designator R?, comment Res3  value 41.2K
RES SMD 41.2K OHM 1% 1/8W 0805; MPN: CRCW080541K2FKEA; Name: Resistor_41.2K; PN: 541-41.2KCCT-ND; URL: http://www.digikey.ca/product-detail/en/CRCW080541K2FKEA/541-41.2KCCT-ND
footprint RESC2112X05M (Chip Resistor, 2-Leads, Body 2.05x1.25mm, IPC Low Density)
pins: 1, 2

## Resistor_41.2R
designator R?, comment Res3  value 41.2R
RES SMD 41.2R OHM 1% 1/8W 0805; MPN: CRCW080541R2FKEA; Name: Resistor_41.2R; PN: 541-41.2CCT-ND; URL: http://www.digikey.ca/product-detail/en/CRCW080541R2FKEA/541-41.2CCT-ND
footprint RESC2112X05M (Chip Resistor, 2-Leads, Body 2.05x1.25mm, IPC Low Density)
pins: 1, 2

## Resistor_42.2K
designator R?, comment Res3  value 42.2K
RES SMD 42.2K OHM 1% 1/8W 0805; MPN: CRCW080542K2FKEA; Name: Resistor_42.2K; PN: 541-42.2KCCT-ND; URL: http://www.digikey.ca/product-detail/en/CRCW080542K2FKEA/541-42.2KCCT-ND
footprint RESC2112X05M (Chip Resistor, 2-Leads, Body 2.05x1.25mm, IPC Low Density)
pins: 1, 2

## Resistor_42.2R
designator R?, comment Res3  value 42.2R
RES SMD 42.2R OHM 1% 1/8W 0805; MPN: CRCW080542R2FKEA; Name: Resistor_42.2R; PN: 541-42.2CCT-ND; URL: http://www.digikey.ca/product-detail/en/CRCW080542R2FKEA/541-42.2CCT-ND
footprint RESC2112X05M (Chip Resistor, 2-Leads, Body 2.05x1.25mm, IPC Low Density)
pins: 1, 2

## Resistor_43.2K
designator R?, comment Res3  value 43.2K
RES SMD 43.2K OHM 1% 1/8W 0805; MPN: CRCW080543K2FKEA; Name: Resistor_43.2K; PN: 541-43.2KCCT-ND; URL: http://www.digikey.ca/product-detail/en/CRCW080543K2FKEA/541-43.2KCCT-ND
footprint RESC2112X05M (Chip Resistor, 2-Leads, Body 2.05x1.25mm, IPC Low Density)
pins: 1, 2

## Resistor_43.2R
designator R?, comment Res3  value 43.2R
RES SMD 43.2R OHM 1% 1/8W 0805; MPN: CRCW080543R2FKEA; Name: Resistor_43.2R; PN: 541-43.2CCT-ND; URL: http://www.digikey.ca/product-detail/en/CRCW080543R2FKEA/541-43.2CCT-ND
footprint RESC2112X05M (Chip Resistor, 2-Leads, Body 2.05x1.25mm, IPC Low Density)
pins: 1, 2

## Resistor_44.2K
designator R?, comment Res3  value 44.2K
RES SMD 44.2K OHM 1% 1/8W 0805; MPN: CRCW080544K2FKEA; Name: Resistor_44.2K; PN: 541-44.2KCCT-ND; URL: http://www.digikey.ca/product-detail/en/CRCW080544K2FKEA/541-44.2KCCT-ND
footprint RESC2112X05M (Chip Resistor, 2-Leads, Body 2.05x1.25mm, IPC Low Density)
pins: 1, 2

## Resistor_44.2R
designator R?, comment Res3  value 44.2R
RES SMD 44.2R OHM 1% 1/8W 0805; MPN: CRCW080544R2FKEA; Name: Resistor_44.2R; PN: 541-44.2CCT-ND; URL: http://www.digikey.ca/product-detail/en/CRCW080544R2FKEA/541-44.2CCT-ND
footprint RESC2112X05M (Chip Resistor, 2-Leads, Body 2.05x1.25mm, IPC Low Density)
pins: 1, 2

## Resistor_45.3K
designator R?, comment Res3  value 45.3K
RES SMD 45.3K OHM 1% 1/8W 0805; MPN: CRCW080545K3FKEA; Name: Resistor_45.3K; PN: 541-45.3KCCT-ND; URL: http://www.digikey.ca/product-detail/en/CRCW080545K3FKEA/541-45.3KCCT-ND
footprint RESC2112X05M (Chip Resistor, 2-Leads, Body 2.05x1.25mm, IPC Low Density)
pins: 1, 2

## Resistor_45.3R
designator R?, comment Res3  value 45.3R
RES SMD 45.3R OHM 1% 1/8W 0805; MPN: CRCW080545R3FKEA; Name: Resistor_45.3R; PN: 541-45.3CCT-ND; URL: http://www.digikey.ca/product-detail/en/CRCW080545R3FKEA/541-45.3CCT-ND
footprint RESC2112X05M (Chip Resistor, 2-Leads, Body 2.05x1.25mm, IPC Low Density)
pins: 1, 2

## Resistor_46.4K
designator R?, comment Res3  value 46.4K
RES SMD 46.4K OHM 1% 1/8W 0805; MPN: CRCW080546K4FKEA; Name: Resistor_46.4K; PN: 541-46.4KCCT-ND; URL: http://www.digikey.ca/product-detail/en/CRCW080546K4FKEA/541-46.4KCCT-ND
footprint RESC2112X05M (Chip Resistor, 2-Leads, Body 2.05x1.25mm, IPC Low Density)
pins: 1, 2

## Resistor_46.4R
designator R?, comment Res3  value 46.4R
RES SMD 46.4R OHM 1% 1/8W 0805; MPN: CRCW080546R4FKEA; Name: Resistor_46.4R; PN: 541-46.4CCT-ND; URL: http://www.digikey.ca/product-detail/en/CRCW080546R4FKEA/541-46.4CCT-ND
footprint RESC2112X05M (Chip Resistor, 2-Leads, Body 2.05x1.25mm, IPC Low Density)
pins: 1, 2

## Resistor_47.5K
designator R?, comment Res3  value 47.5K
RES SMD 47.5K OHM 1% 1/8W 0805; MPN: CRCW080547K5FKEA; Name: Resistor_47.5K; PN: 541-47.5KCCT-ND; URL: http://www.digikey.ca/product-detail/en/CRCW080547K5FKEA/541-47.5KCCT-ND
footprint RESC2112X05M (Chip Resistor, 2-Leads, Body 2.05x1.25mm, IPC Low Density)
pins: 1, 2

## Resistor_47.5R
designator R?, comment Res3  value 47.5R
RES SMD 47.5R OHM 1% 1/8W 0805; MPN: CRCW080547R5FKEA; Name: Resistor_47.5R; PN: 541-47.5CCT-ND; URL: http://www.digikey.ca/product-detail/en/CRCW080547R5FKEA/541-47.5CCT-ND
footprint RESC2112X05M (Chip Resistor, 2-Leads, Body 2.05x1.25mm, IPC Low Density)
pins: 1, 2

## Resistor_48.7K
designator R?, comment Res3  value 48.7K
RES SMD 48.7K OHM 1% 1/8W 0805; MPN: CRCW080548K7FKEA; Name: Resistor_48.7K; PN: 541-48.7KCCT-ND; URL: http://www.digikey.ca/product-detail/en/CRCW080548K7FKEA/541-48.7KCCT-ND
footprint RESC2112X05M (Chip Resistor, 2-Leads, Body 2.05x1.25mm, IPC Low Density)
pins: 1, 2

## Resistor_48.7R
designator R?, comment Res3  value 48.7R
RES SMD 48.7R OHM 1% 1/8W 0805; MPN: CRCW080548R7FKEA; Name: Resistor_48.7R; PN: 541-48.7CCT-ND; URL: http://www.digikey.ca/product-detail/en/CRCW080548R7FKEA/541-48.7CCT-ND
footprint RESC2112X05M (Chip Resistor, 2-Leads, Body 2.05x1.25mm, IPC Low Density)
pins: 1, 2

## Resistor_49.9K
designator R?, comment Res3  value 49.9K
RES SMD 49.9K OHM 1% 1/8W 0805; MPN: CRCW080549K9FKEA; Name: Resistor_49.9K; PN: 541-49.9KCCT-ND; URL: http://www.digikey.ca/product-detail/en/CRCW080549K9FKEA/541-49.9KCCT-ND
footprint RESC2112X05M (Chip Resistor, 2-Leads, Body 2.05x1.25mm, IPC Low Density)
pins: 1, 2

## Resistor_49.9R
designator R?, comment Res3  value 49.9R
RES SMD 49.9R OHM 1% 1/8W 0805; MPN: CRCW080549R9FKEA; Name: Resistor_49.9R; PN: 541-49.9CCT-ND; URL: http://www.digikey.ca/product-detail/en/CRCW080549R9FKEA/541-49.9CCT-ND
footprint RESC2112X05M (Chip Resistor, 2-Leads, Body 2.05x1.25mm, IPC Low Density)
pins: 1, 2

## Resistor_51.1K
designator R?, comment Res3  value 51.1K
RES SMD 51.1K OHM 1% 1/8W 0805; MPN: CRCW080551K1FKEA; Name: Resistor_51.1K; PN: 541-51.1KCCT-ND; URL: http://www.digikey.ca/product-detail/en/CRCW080551K1FKEA/541-51.1KCCT-ND
footprint RESC2112X05M (Chip Resistor, 2-Leads, Body 2.05x1.25mm, IPC Low Density)
pins: 1, 2

## Resistor_51.1R
designator R?, comment Res3  value 51.1R
RES SMD 51.1R OHM 1% 1/8W 0805; MPN: CRCW080551R1FKEA; Name: Resistor_51.1R; PN: 541-51.1CCT-ND; URL: http://www.digikey.ca/product-detail/en/CRCW080551R1FKEA/541-51.1CCT-ND
footprint RESC2112X05M (Chip Resistor, 2-Leads, Body 2.05x1.25mm, IPC Low Density)
pins: 1, 2

## Resistor_52.3K
designator R?, comment Res3  value 52.3K
RES SMD 52.3K OHM 1% 1/8W 0805; MPN: CRCW080552K3FKEA; Name: Resistor_52.3K; PN: 541-52.3KCCT-ND; URL: http://www.digikey.ca/product-detail/en/CRCW080552K3FKEA/541-52.3KCCT-ND
footprint RESC2112X05M (Chip Resistor, 2-Leads, Body 2.05x1.25mm, IPC Low Density)
pins: 1, 2

## Resistor_52.3R
designator R?, comment Res3  value 52.3R
RES SMD 52.3R OHM 1% 1/8W 0805; MPN: CRCW080552R3FKEA; Name: Resistor_52.3R; PN: 541-52.3CCT-ND; URL: http://www.digikey.ca/product-detail/en/CRCW080552R3FKEA/541-52.3CCT-ND
footprint RESC2112X05M (Chip Resistor, 2-Leads, Body 2.05x1.25mm, IPC Low Density)
pins: 1, 2

## Resistor_53.6K
designator R?, comment Res3  value 53.6K
RES SMD 53.6K OHM 1% 1/8W 0805; MPN: CRCW080553K6FKEA; Name: Resistor_53.6K; PN: 541-53.6KCCT-ND; URL: http://www.digikey.ca/product-detail/en/CRCW080553K6FKEA/541-53.6KCCT-ND
footprint RESC2112X05M (Chip Resistor, 2-Leads, Body 2.05x1.25mm, IPC Low Density)
pins: 1, 2

## Resistor_53.6R
designator R?, comment Res3  value 53.6R
RES SMD 53.6R OHM 1% 1/8W 0805; MPN: CRCW080553R6FKEA; Name: Resistor_53.6R; PN: 541-53.6CCT-ND; URL: http://www.digikey.ca/product-detail/en/CRCW080553R6FKEA/541-53.6CCT-ND
footprint RESC2112X05M (Chip Resistor, 2-Leads, Body 2.05x1.25mm, IPC Low Density)
pins: 1, 2

## Resistor_54.9K
designator R?, comment Res3  value 54.9K
RES SMD 54.9K OHM 1% 1/8W 0805; MPN: CRCW080554K9FKEA; Name: Resistor_54.9K; PN: 541-54.9KCCT-ND; URL: http://www.digikey.ca/product-detail/en/CRCW080554K9FKEA/541-54.9KCCT-ND
footprint RESC2112X05M (Chip Resistor, 2-Leads, Body 2.05x1.25mm, IPC Low Density)
pins: 1, 2

## Resistor_54.9R
designator R?, comment Res3  value 54.9R
RES SMD 54.9R OHM 1% 1/8W 0805; MPN: CRCW080554R9FKEA; Name: Resistor_54.9R; PN: 541-54.9CCT-ND; URL: http://www.digikey.ca/product-detail/en/CRCW080554R9FKEA/541-54.9CCT-ND
footprint RESC2112X05M (Chip Resistor, 2-Leads, Body 2.05x1.25mm, IPC Low Density)
pins: 1, 2

## Resistor_56.2K
designator R?, comment Res3  value 56.2K
RES SMD 56.2K OHM 1% 1/8W 0805; MPN: CRCW080556K2FKEA; Name: Resistor_56.2K; PN: 541-56.2KCCT-ND; URL: http://www.digikey.ca/product-detail/en/CRCW080556K2FKEA/541-56.2KCCT-ND
footprint RESC2112X05M (Chip Resistor, 2-Leads, Body 2.05x1.25mm, IPC Low Density)
pins: 1, 2

## Resistor_56.2R
designator R?, comment Res3  value 56.2R
RES SMD 56.2R OHM 1% 1/8W 0805; MPN: CRCW080556R2FKEA; Name: Resistor_56.2R; PN: 541-56.2CCT-ND; URL: http://www.digikey.ca/product-detail/en/CRCW080556R2FKEA/541-56.2CCT-ND
footprint RESC2112X05M (Chip Resistor, 2-Leads, Body 2.05x1.25mm, IPC Low Density)
pins: 1, 2

## Resistor_57.6K
designator R?, comment Res3  value 57.6K
RES SMD 57.6K OHM 1% 1/8W 0805; MPN: CRCW080557K6FKEA; Name: Resistor_57.6K; PN: 541-57.6KCCT-ND; URL: http://www.digikey.ca/product-detail/en/CRCW080557K6FKEA/541-57.6KCCT-ND
footprint RESC2112X05M (Chip Resistor, 2-Leads, Body 2.05x1.25mm, IPC Low Density)
pins: 1, 2

## Resistor_57.6R
designator R?, comment Res3  value 57.6R
RES SMD 57.6R OHM 1% 1/8W 0805; MPN: CRCW080557R6FKEA; Name: Resistor_57.6R; PN: 541-57.6CCT-ND; URL: http://www.digikey.ca/product-detail/en/CRCW080557R6FKEA/541-57.6CCT-ND
footprint RESC2112X05M (Chip Resistor, 2-Leads, Body 2.05x1.25mm, IPC Low Density)
pins: 1, 2

## Resistor_59.0K
designator R?, comment Res3  value 59.0K
RES SMD 59.0K OHM 1% 1/8W 0805; MPN: CRCW080559K0FKEA; Name: Resistor_59.0K; PN: 541-59.0KCCT-ND; URL: http://www.digikey.ca/product-detail/en/CRCW080559K0FKEA/541-59.0KCCT-ND
footprint RESC2112X05M (Chip Resistor, 2-Leads, Body 2.05x1.25mm, IPC Low Density)
pins: 1, 2

## Resistor_59.0R
designator R?, comment Res3  value 59.0R
RES SMD 59.0R OHM 1% 1/8W 0805; MPN: CRCW080559R0FKEA; Name: Resistor_59.0R; PN: 541-59.0CCT-ND; URL: http://www.digikey.ca/product-detail/en/CRCW080559R0FKEA/541-59.0CCT-ND
footprint RESC2112X05M (Chip Resistor, 2-Leads, Body 2.05x1.25mm, IPC Low Density)
pins: 1, 2

## Resistor_60.4K
designator R?, comment Res3  value 60.4K
RES SMD 60.4K OHM 1% 1/8W 0805; MPN: CRCW080560K4FKEA; Name: Resistor_60.4K; PN: 541-60.4KCCT-ND; URL: http://www.digikey.ca/product-detail/en/CRCW080560K4FKEA/541-60.4KCCT-ND
footprint RESC2112X05M (Chip Resistor, 2-Leads, Body 2.05x1.25mm, IPC Low Density)
pins: 1, 2

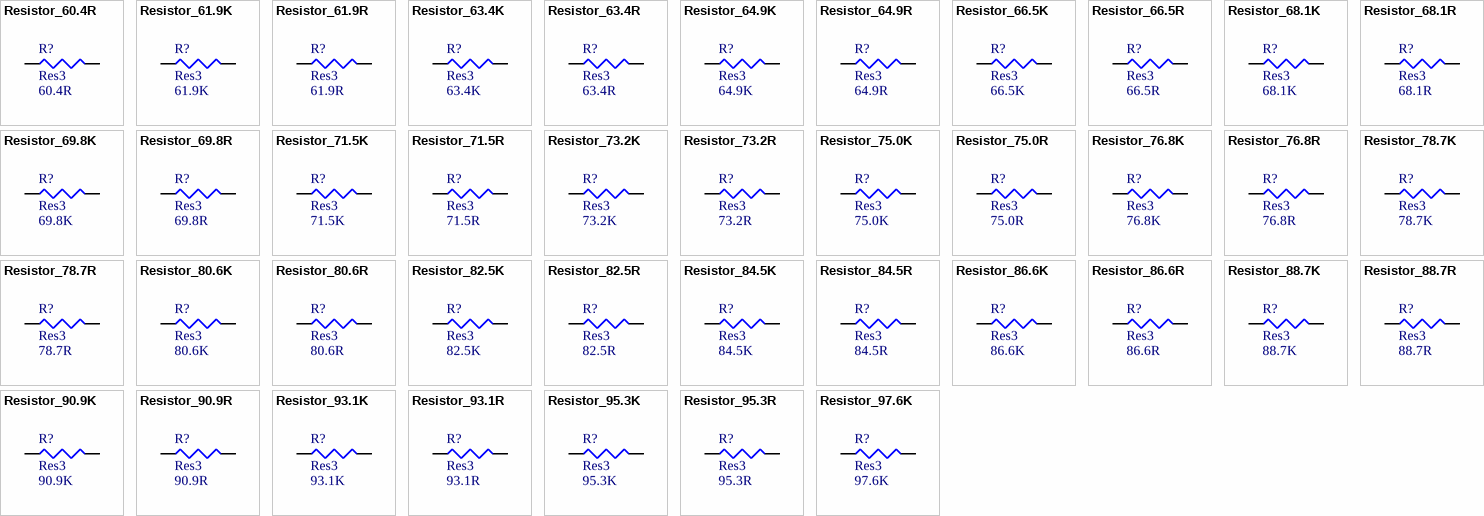
[diagram p11: symbols Resistor_60.4R to Resistor_97.6K]

## Resistor_60.4R
designator R?, comment Res3  value 60.4R
RES SMD 60.4R OHM 1% 1/8W 0805; MPN: CRCW080560R4FKEA; Name: Resistor_60.4R; PN: 541-60.4CCT-ND; URL: http://www.digikey.ca/product-detail/en/CRCW080560R4FKEA/541-60.4CCT-ND
footprint RESC2112X05M (Chip Resistor, 2-Leads, Body 2.05x1.25mm, IPC Low Density)
pins: 1, 2

## Resistor_61.9K
designator R?, comment Res3  value 61.9K
RES SMD 61.9K OHM 1% 1/8W 0805; MPN: CRCW080561K9FKEA; Name: Resistor_61.9K; PN: 541-61.9KCCT-ND; URL: http://www.digikey.ca/product-detail/en/CRCW080561K9FKEA/541-61.9KCCT-ND
footprint RESC2112X05M (Chip Resistor, 2-Leads, Body 2.05x1.25mm, IPC Low Density)
pins: 1, 2

## Resistor_61.9R
designator R?, comment Res3  value 61.9R
RES SMD 61.9R OHM 1% 1/8W 0805; MPN: CRCW080561R9FKEA; Name: Resistor_61.9R; PN: 541-61.9CCT-ND; URL: http://www.digikey.ca/product-detail/en/CRCW080561R9FKEA/541-61.9CCT-ND
footprint RESC2112X05M (Chip Resistor, 2-Leads, Body 2.05x1.25mm, IPC Low Density)
pins: 1, 2

## Resistor_63.4K
designator R?, comment Res3  value 63.4K
RES SMD 63.4K OHM 1% 1/8W 0805; MPN: CRCW080563K4FKEA; Name: Resistor_63.4K; PN: 541-63.4KCCT-ND; URL: http://www.digikey.ca/product-detail/en/CRCW080563K4FKEA/541-63.4KCCT-ND
footprint RESC2112X05M (Chip Resistor, 2-Leads, Body 2.05x1.25mm, IPC Low Density)
pins: 1, 2

## Resistor_63.4R
designator R?, comment Res3  value 63.4R
RES SMD 63.4R OHM 1% 1/8W 0805; MPN: CRCW080563R4FKEA; Name: Resistor_63.4R; PN: 541-63.4CCT-ND; URL: http://www.digikey.ca/product-detail/en/CRCW080563R4FKEA/541-63.4CCT-ND
footprint RESC2112X05M (Chip Resistor, 2-Leads, Body 2.05x1.25mm, IPC Low Density)
pins: 1, 2

## Resistor_64.9K
designator R?, comment Res3  value 64.9K
RES SMD 64.9K OHM 1% 1/8W 0805; MPN: CRCW080564K9FKEA; Name: Resistor_64.9K; PN: 541-64.9KCCT-ND; URL: http://www.digikey.ca/product-detail/en/CRCW080564K9FKEA/541-64.9KCCT-ND
footprint RESC2112X05M (Chip Resistor, 2-Leads, Body 2.05x1.25mm, IPC Low Density)
pins: 1, 2

## Resistor_64.9R
designator R?, comment Res3  value 64.9R
RES SMD 64.9R OHM 1% 1/8W 0805; MPN: CRCW080564R9FKEA; Name: Resistor_64.9R; PN: 541-64.9CCT-ND; URL: http://www.digikey.ca/product-detail/en/CRCW080564R9FKEA/541-64.9CCT-ND
footprint RESC2112X05M (Chip Resistor, 2-Leads, Body 2.05x1.25mm, IPC Low Density)
pins: 1, 2

## Resistor_66.5K
designator R?, comment Res3  value 66.5K
RES SMD 66.5K OHM 1% 1/8W 0805; MPN: CRCW080566K5FKEA; Name: Resistor_66.5K; PN: 541-66.5KCCT-ND; URL: http://www.digikey.ca/product-detail/en/CRCW080566K5FKEA/541-66.5KCCT-ND
footprint RESC2112X05M (Chip Resistor, 2-Leads, Body 2.05x1.25mm, IPC Low Density)
pins: 1, 2

## Resistor_66.5R
designator R?, comment Res3  value 66.5R
RES SMD 66.5R OHM 1% 1/8W 0805; MPN: CRCW080566R5FKEA; Name: Resistor_66.5R; PN: 541-66.5CCT-ND; URL: http://www.digikey.ca/product-detail/en/CRCW080566R5FKEA/541-66.5CCT-ND
footprint RESC2112X05M (Chip Resistor, 2-Leads, Body 2.05x1.25mm, IPC Low Density)
pins: 1, 2

## Resistor_68.1K
designator R?, comment Res3  value 68.1K
RES SMD 68.1K OHM 1% 1/8W 0805; MPN: CRCW080568K1FKEA; Name: Resistor_68.1K; PN: 541-68.1KCCT-ND; URL: http://www.digikey.ca/product-detail/en/CRCW080568K1FKEA/541-68.1KCCT-ND
footprint RESC2112X05M (Chip Resistor, 2-Leads, Body 2.05x1.25mm, IPC Low Density)
pins: 1, 2

## Resistor_68.1R
designator R?, comment Res3  value 68.1R
RES SMD 68.1R OHM 1% 1/8W 0805; MPN: CRCW080568R1FKEA; Name: Resistor_68.1R; PN: 541-68.1CCT-ND; URL: http://www.digikey.ca/product-detail/en/CRCW080568R1FKEA/541-68.1CCT-ND
footprint RESC2112X05M (Chip Resistor, 2-Leads, Body 2.05x1.25mm, IPC Low Density)
pins: 1, 2